# Altium schematic symbol library WE-LQFS_4828.SchLib: 12 symbols
Pins are listed as number, name and electrical type; pins without a type are passive.

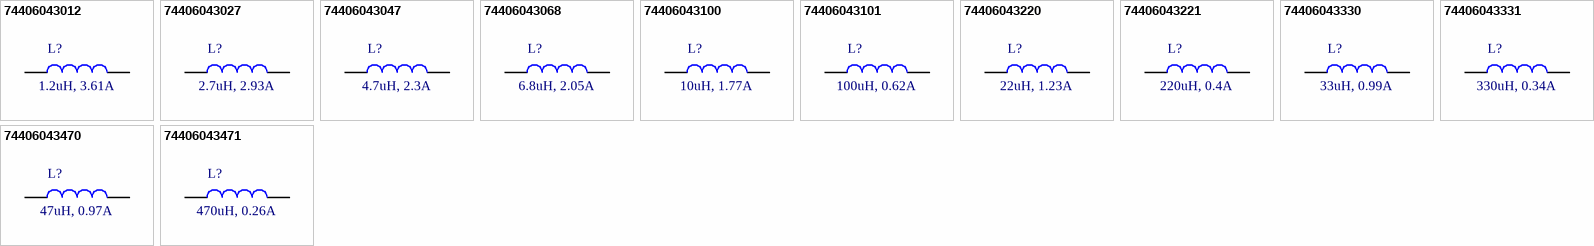
[diagram p0: symbols 74406043012 to 74406043471]

## 74406043012
designator L?, comment 1.2uH, 3.61A
WE-LQFS SMT Power Inductor, size 4828, 1.2uH, 3.61A; Manufacturer: Wurth Elektronik; Manufacturer Part Number: 74406043012; Self Resonant Frequency: 237MHz; DC Resistance typ.: 18mOhm; DC Resistance max.: 21mOhm; Saturation Current: 3.06A; ComponentLink1Description: Manufacturer; ComponentLink1URL: http://www.we-online.de; ComponentLink2Description: Datasheet; ComponentLink2URL: https://www.we-online.com/catalog/datasheet/74406043012.pdf; Mounting Technology: SMT; Operating Temperature: -40 to +125degC; Packaging: Tape and Reel; Published Date: April 2020; Inductance: 1.2uH; Rated Current: 3.61A; Size: 4828
footprint WE-LQFS_4828
pins: 1, 2

## 74406043027
designator L?, comment 2.7uH, 2.93A
WE-LQFS SMT Power Inductor, size 4828, 2.7uH, 2.93A; Manufacturer: Wurth Elektronik; Manufacturer Part Number: 74406043027; Self Resonant Frequency: 119MHz; DC Resistance typ.: 27mOhm; DC Resistance max.: 32mOhm; Saturation Current: 2.07A; ComponentLink1Description: Manufacturer; ComponentLink1URL: http://www.we-online.de; ComponentLink2Description: Datasheet; ComponentLink2URL: https://www.we-online.com/catalog/datasheet/74406043027.pdf; Mounting Technology: SMT; Operating Temperature: -40 to +125degC; Packaging: Tape and Reel; Published Date: April 2020; Inductance: 2.7uH; Rated Current: 2.93A; Size: 4828
footprint WE-LQFS_4828
pins: 1, 2

## 74406043047
designator L?, comment 4.7uH, 2.3A
WE-LQFS SMT Power Inductor, size 4828, 4.7uH, 2.3A; Manufacturer: Wurth Elektronik; Manufacturer Part Number: 74406043047; Self Resonant Frequency: 81MHz; DC Resistance typ.: 42mOhm; DC Resistance max.: 51mOhm; Saturation Current: 1.62A; ComponentLink1Description: Manufacturer; ComponentLink1URL: http://www.we-online.de; ComponentLink2Description: Datasheet; ComponentLink2URL: https://www.we-online.com/catalog/datasheet/74406043047.pdf; Mounting Technology: SMT; Operating Temperature: -40 to +125degC; Packaging: Tape and Reel; Published Date: April 2020; Inductance: 4.7uH; Rated Current: 2.3A; Size: 4828
footprint WE-LQFS_4828
pins: 1, 2

## 74406043068
designator L?, comment 6.8uH, 2.05A
WE-LQFS SMT Power Inductor, size 4828, 6.8uH, 2.05A; Manufacturer: Wurth Elektronik; Manufacturer Part Number: 74406043068; Self Resonant Frequency: 66MHz; DC Resistance typ.: 53mOhm; DC Resistance max.: 64mOhm; Saturation Current: 1.52A; ComponentLink1Description: Manufacturer; ComponentLink1URL: http://www.we-online.de; ComponentLink2Description: Datasheet; ComponentLink2URL: https://www.we-online.com/catalog/datasheet/74406043068.pdf; Mounting Technology: SMT; Operating Temperature: -40 to +125degC; Packaging: Tape and Reel; Published Date: April 2020; Inductance: 6.8uH; Rated Current: 2.05A; Size: 4828
footprint WE-LQFS_4828
pins: 1, 2

## 74406043100
designator L?, comment 10uH, 1.77A
WE-LQFS SMT Power Inductor, size 4828, 10uH, 1.77A; Manufacturer: Wurth Elektronik; Manufacturer Part Number: 74406043100; Self Resonant Frequency: 45MHz; DC Resistance typ.: 72mOhm; DC Resistance max.: 86mOhm; Saturation Current: 1.22A; ComponentLink1Description: Manufacturer; ComponentLink1URL: http://www.we-online.de; ComponentLink2Description: Datasheet; ComponentLink2URL: https://www.we-online.com/catalog/datasheet/74406043100.pdf; Mounting Technology: SMT; Operating Temperature: -40 to +125degC; Packaging: Tape and Reel; Published Date: April 2020; Inductance: 10uH; Rated Current: 1.77A; Size: 4828
footprint WE-LQFS_4828
pins: 1, 2

## 74406043101
designator L?, comment 100uH, 0.62A
WE-LQFS SMT Power Inductor, size 4828, 100uH, 0.62A; Manufacturer: Wurth Elektronik; Manufacturer Part Number: 74406043101; Self Resonant Frequency: 11MHz; DC Resistance typ.: 500mOhm; DC Resistance max.: 600mOhm; Saturation Current: 0.37A; ComponentLink1Description: Manufacturer; ComponentLink1URL: http://www.we-online.de; ComponentLink2Description: Datasheet; ComponentLink2URL: https://www.we-online.com/catalog/datasheet/74406043101.pdf; Mounting Technology: SMT; Operating Temperature: -40 to +125degC; Packaging: Tape and Reel; Published Date: April 2020; Inductance: 100uH; Rated Current: 0.62A; Size: 4828
footprint WE-LQFS_4828
pins: 1, 2

## 74406043220
designator L?, comment 22uH, 1.23A
WE-LQFS SMT Power Inductor, size 4828, 22uH, 1.23A; Manufacturer: Wurth Elektronik; Manufacturer Part Number: 74406043220; Self Resonant Frequency: 25MHz; DC Resistance typ.: 143mOhm; DC Resistance max.: 172mOhm; Saturation Current: 0.77A; ComponentLink1Description: Manufacturer; ComponentLink1URL: http://www.we-online.de; ComponentLink2Description: Datasheet; ComponentLink2URL: https://www.we-online.com/catalog/datasheet/74406043220.pdf; Mounting Technology: SMT; Operating Temperature: -40 to +125degC; Packaging: Tape and Reel; Published Date: April 2020; Inductance: 22uH; Rated Current: 1.23A; Size: 4828
footprint WE-LQFS_4828
pins: 1, 2

## 74406043221
designator L?, comment 220uH, 0.4A
WE-LQFS SMT Power Inductor, size 4828, 220uH, 0.4A; Manufacturer: Wurth Elektronik; Manufacturer Part Number: 74406043221; Self Resonant Frequency: 7MHz; DC Resistance typ.: 1105mOhm; DC Resistance max.: 1326mOhm; Saturation Current: 0.26A; ComponentLink1Description: Manufacturer; ComponentLink1URL: http://www.we-online.de; ComponentLink2Description: Datasheet; ComponentLink2URL: https://www.we-online.com/catalog/datasheet/74406043221.pdf; Mounting Technology: SMT; Operating Temperature: -40 to +125degC; Packaging: Tape and Reel; Published Date: April 2020; Inductance: 220uH; Rated Current: 0.4A; Size: 4828
footprint WE-LQFS_4828
pins: 1, 2

## 74406043330
designator L?, comment 33uH, 0.99A
WE-LQFS SMT Power Inductor, size 4828, 33uH, 0.99A; Manufacturer: Wurth Elektronik; Manufacturer Part Number: 74406043330; Self Resonant Frequency: 20MHz; DC Resistance typ.: 209mOhm; DC Resistance max.: 251mOhm; Saturation Current: 0.64A; ComponentLink1Description: Manufacturer; ComponentLink1URL: http://www.we-online.de; ComponentLink2Description: Datasheet; ComponentLink2URL: https://www.we-online.com/catalog/datasheet/74406043330.pdf; Mounting Technology: SMT; Operating Temperature: -40 to +125degC; Packaging: Tape and Reel; Published Date: April 2020; Inductance: 33uH; Rated Current: 0.99A; Size: 4828
footprint WE-LQFS_4828
pins: 1, 2

## 74406043331
designator L?, comment 330uH, 0.34A
WE-LQFS SMT Power Inductor, size 4828, 330uH, 0.34A; Manufacturer: Wurth Elektronik; Manufacturer Part Number: 74406043331; Self Resonant Frequency: 5.8MHz; DC Resistance typ.: 1554mOhm; DC Resistance max.: 1864mOhm; Saturation Current: 0.22A; ComponentLink1Description: Manufacturer; ComponentLink1URL: http://www.we-online.de; ComponentLink2Description: Datasheet; ComponentLink2URL: https://www.we-online.com/catalog/datasheet/74406043331.pdf; Mounting Technology: SMT; Operating Temperature: -40 to +125degC; Packaging: Tape and Reel; Published Date: April 2020; Inductance: 330uH; Rated Current: 0.34A; Size: 4828
footprint WE-LQFS_4828
pins: 1, 2

## 74406043470
designator L?, comment 47uH, 0.97A
WE-LQFS SMT Power Inductor, size 4828, 47uH, 0.97A; Manufacturer: Wurth Elektronik; Manufacturer Part Number: 74406043470; Self Resonant Frequency: 17MHz; DC Resistance typ.: 216mOhm; DC Resistance max.: 260mOhm; Saturation Current: 0.56A; ComponentLink1Description: Manufacturer; ComponentLink1URL: http://www.we-online.de; ComponentLink2Description: Datasheet; ComponentLink2URL: https://www.we-online.com/catalog/datasheet/74406043470.pdf; Mounting Technology: SMT; Operating Temperature: -40 to +125degC; Packaging: Tape and Reel; Published Date: April 2020; Inductance: 47uH; Rated Current: 0.97A; Size: 4828
footprint WE-LQFS_4828
pins: 1, 2

## 74406043471
designator L?, comment 470uH, 0.26A
WE-LQFS SMT Power Inductor, size 4828, 470uH, 0.26A; Manufacturer: Wurth Elektronik; Manufacturer Part Number: 74406043471; Self Resonant Frequency: 4.7MHz; DC Resistance typ.: 2336mOhm; DC Resistance max.: 2803mOhm; Saturation Current: 0.18A; ComponentLink1Description: Manufacturer; ComponentLink1URL: http://www.we-online.de; ComponentLink2Description: Datasheet; ComponentLink2URL: https://www.we-online.com/catalog/datasheet/74406043471.pdf; Mounting Technology: SMT; Operating Temperature: -40 to +125degC; Packaging: Tape and Reel; Published Date: April 2020; Inductance: 470uH; Rated Current: 0.26A; Size: 4828
footprint WE-LQFS_4828
pins: 1, 2